# Altium schematic symbol library Quad_Op_Amp.SchLib: 1 symbol
Pins are listed as number, name and electrical type; pins without a type are passive.

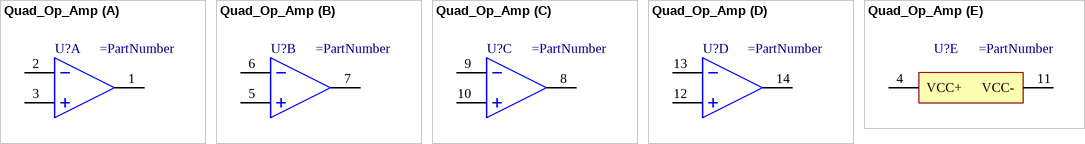
[diagram p0: symbol Quad_Op_Amp]

## Quad_Op_Amp
designator U?
part A pins: 1 OUT1, 2 IN1-, 3 IN1+
part B pins: 5 IN2+, 6 IN2-, 7 OUT2
part C pins: 8 OUT3, 9 IN3-, 10 IN3+
part D pins: 12 IN4+, 13 IN4-, 14 OUT4
part E pins: 4 VCC+, 11 VCC-